# Altium schematic symbol library transistor.SchLib: 21 symbols
Pins are listed as number, name and electrical type; pins without a type are passive.

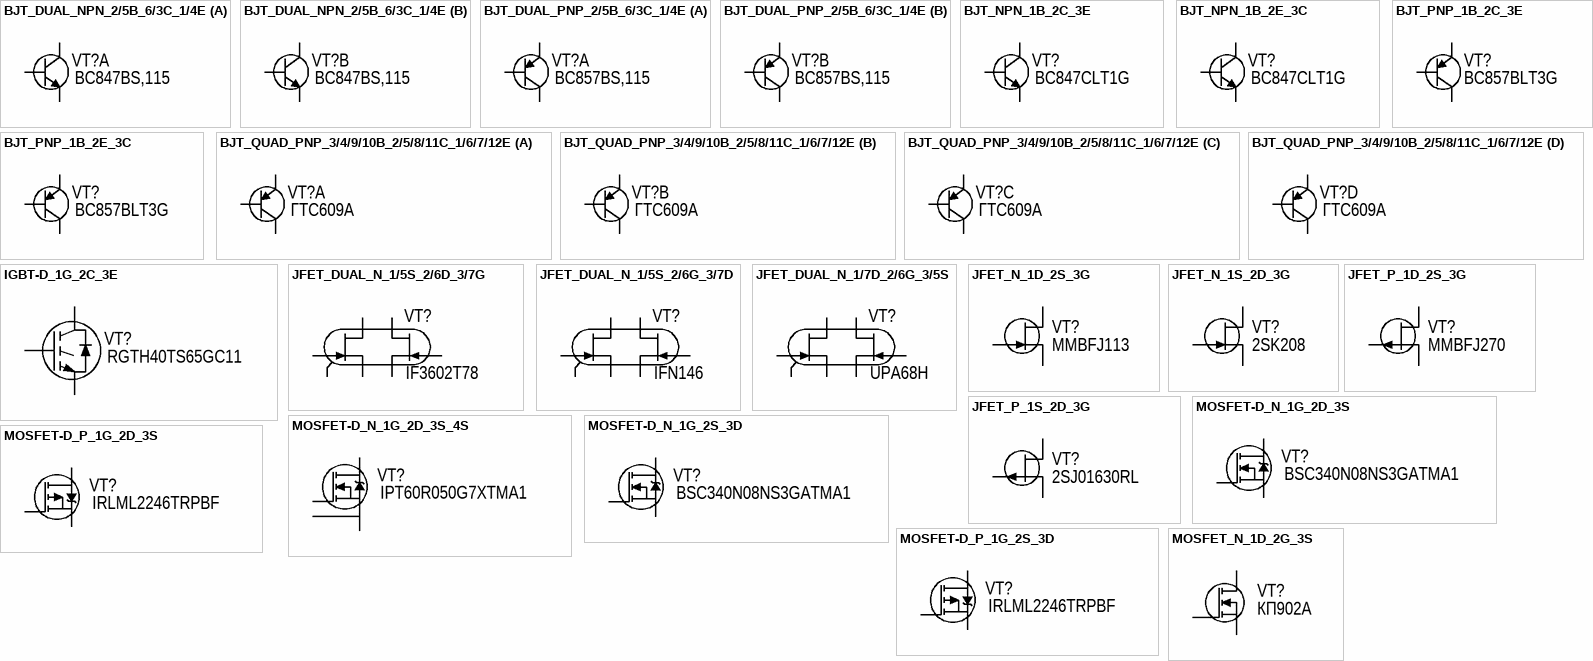
[diagram p0: symbols BJT_DUAL_NPN_2/5B_6/3C_1/4E to MOSFET_N_1D_2G_3S]

## BJT_DUAL_NPN_2/5B_6/3C_1/4E
designator VT?  PartNumber: BC847BS,115
Manufacturer: Nexperia; ValueManufacturerPartNumber: Dual NPN transistor, 45V, 100mA, 100MHz, 300mW, 0.3V, 200, SOT-363, -65...+150°C; TypeTransistor: Dual NPN transistor; VoltageCE: 45V; CurrentCE: 100mA; VoltageSaturation: 0.3V; Frequency: 100MHz; CurrentGain: 200; MaxPower: 300mW; Package: SOT-363; HelpURL: https://www.mouser.com/ProductDetail/Nexperia/BC847BS115?qs=me8TqzrmIYXy2TZEvQyxww%3D%3D; Temperature: -65...+150°C
footprint SC70-6 (SOT363, SC70-6, SOT, 0.65mm Pitch, 6 Pin, 1.25mm W X 2.00mm L X 1.10mm H, IPC Medium Density)
part A pins: 1 E1, 2 B1, 6 C1
part B pins: 3 C2, 4 E2, 5 B2

## BJT_DUAL_PNP_2/5B_6/3C_1/4E
designator VT?  PartNumber: BC857BS,115
Manufacturer: Nexperia; ValueManufacturerPartNumber: Dual PNP transistor, 45V, 100mA, 100MHz, 300mW, 0.4V, 200, SOT-363, -65...+150°C; TypeTransistor: Dual PNP transistor; VoltageCE: 45V; CurrentCE: 100mA; VoltageSaturation: 0.4V; Frequency: 100MHz; CurrentGain: 200; MaxPower: 300mW; Package: SOT-363; HelpURL: https://www.mouser.com/ProductDetail/Nexperia/BC857BS115?qs=me8TqzrmIYUTVIx%252BZhNjFA%3D%3D; Temperature: -65...+150°C
footprint SC70-6 (SOT363, SC70-6, SOT, 0.65mm Pitch, 6 Pin, 1.25mm W X 2.00mm L X 1.10mm H, IPC Medium Density)
part A pins: 1 E1, 2 B1, 6 C1
part B pins: 3 C2, 4 E2, 5 B2

## BJT_NPN_1B_2C_3E
designator VT?  PartNumber: BC847CLT1G
Manufacturer: ON Semiconductor; ValueManufacturerPartNumber: NPN transistor, 45V, 100mA, 100MHz, 300mW, 0.6V, 420, SOT-23, -55...+125°C; TypeTransistor: NPN transistor; VoltageCE: 45V; CurrentCE: 100mA; VoltageSaturation: 0.6V; Frequency: 100MHz; CurrentGain: 420; MaxPower: 300mW; Package: SOT-23; HelpURL: https://www.digikey.com/product-detail/en/on-semiconductor/BC847CLT1G/BC847CLT1GOSCT-ND/917836; Temperature: -55...+125°C
footprint TO-252-2 (DPAK)
footprint TO-263-2 (D2PAK)
footprint SOT23
footprint SOT89
footprint SOT223-3 (SOT223, 4-Leads, Body 6,50x7,00mm (avg), Pitch 2,30mm, IPC Medium Density)
footprint SC-70
pins: 1 B, 2 C, 3 E

## BJT_NPN_1B_2E_3C
designator VT?  PartNumber: BC847CLT1G
Manufacturer: ON Semiconductor; ValueManufacturerPartNumber: NPN transistor, 45V, 100mA, 100MHz, 300mW, 0.6V, 420, SOT-23, -55...+125°C; TypeTransistor: NPN transistor; VoltageCE: 45V; CurrentCE: 100mA; VoltageSaturation: 0.6V; Frequency: 100MHz; CurrentGain: 420; MaxPower: 300mW; Package: SOT-23; HelpURL: https://www.digikey.com/product-detail/en/on-semiconductor/BC847CLT1G/BC847CLT1GOSCT-ND/917836; Temperature: -55...+125°C
footprint TO-263-2 (D2PAK)
footprint TO-252-2 (DPAK)
footprint SOT23
footprint SOT89
footprint SOT223-3 (SOT223, 4-Leads, Body 6,50x7,00mm (avg), Pitch 2,30mm, IPC Medium Density)
footprint SC-70
pins: 1 B, 2 E, 3 C

## BJT_PNP_1B_2C_3E
designator VT?  PartNumber: BC857BLT3G
Manufacturer: ON Semiconductor; ValueManufacturerPartNumber: PNP transistor, 45V, 100mA, 100MHz, 300mW, 0.65V, 220, SOT-23, -55...+125°C; TypeTransistor: PNP transistor; VoltageCE: 45V; CurrentCE: 100mA; VoltageSaturation: 0.65V; Frequency: 100MHz; CurrentGain: 220; MaxPower: 300mW; Package: SOT-23; HelpURL: https://www.digikey.com/product-detail/en/on-semiconductor/BC857BLT3G/BC857BLT3GOSCT-ND/2704963; Temperature: -55...+125°C
footprint TO-263-2 (D2PAK)
footprint TO-252-2 (DPAK)
footprint SOT89
footprint SOT23
footprint SOT223-3 (SOT223, 4-Leads, Body 6,50x7,00mm (avg), Pitch 2,30mm, IPC Medium Density)
footprint SC-70
pins: 1 B, 2 C, 3 E

## BJT_PNP_1B_2E_3C
designator VT?  PartNumber: BC857BLT3G
Manufacturer: ON Semiconductor; ValueManufacturerPartNumber: PNP transistor, 45V, 100mA, 100MHz, 300mW, 0.65V, 220, SOT-23, -55...+125°C; TypeTransistor: PNP transistor; VoltageCE: 45V; CurrentCE: 100mA; VoltageSaturation: 0.65V; Frequency: 100MHz; CurrentGain: 220; MaxPower: 300mW; Package: SOT-23; HelpURL: https://www.digikey.com/product-detail/en/on-semiconductor/BC857BLT3G/BC857BLT3GOSCT-ND/2704963; Temperature: -55...+125°C
footprint TO-263-2 (D2PAK)
footprint TO-252-2 (DPAK)
footprint SOT223-3 (SOT223, 4-Leads, Body 6,50x7,00mm (avg), Pitch 2,30mm, IPC Medium Density)
footprint SOT23
footprint SOT89
footprint SC-70
pins: 1 B, 2 E, 3 C

## BJT_QUAD_PNP_3/4/9/10B_2/5/8/11C_1/6/7/12E
designator VT?  PartNumber: ГТС609A
Manufacturer: ALFA; ValueManufacturerPartNumber: Quad PNP transistor, 50V, 700mA, 60MHz, 500mW, 1.6V, 100mA, 16.3x16.3x5mm, -40...+70°C; TypeTransistor: Quad PNP transistor; VoltageCE: 50V; CurrentCE: 700mA; VoltageSaturation: 1.6V; Frequency: 60MHz; CurrentGain: 100mA; MaxPower: 500mW; Package: 16.3x16.3x5mm; HelpURL: https://eandc.ru/catalog/detail.php?ID=21562; Temperature: -40...+70°C
footprint BJT-QUAD-GTS609 (Quad BJT, Body 16.3x16.3mm)
part A pins: 1 E1, 2 C1, 3 B1
part B pins: 4 B2, 5 C2, 6 E2
part C pins: 7 E3, 8 C3, 9 B3
part D pins: 10 B4, 11 C4, 12 E4

## IGBT-D_1G_2C_3E
designator VT?  PartNumber: RGTH40TS65GC11
Manufacturer: Rohm Semiconductor; ValueManufacturerPartNumber: IGBT transistor, 650V, 40A, 40nC, 144W, 2.1V, 22ns/73ns, TO247, -55...+125°C; TypeTransistor: IGBT transistor; VoltageCE: 650V; CurrentCE: 40A; VoltageSaturation: 2.1V; GateCharge: 40nC; TimeOnOff: 22ns/73ns; MaxPower: 144W; Package: TO247; HelpURL: https://www.digikey.com/product-detail/en/rohm-semiconductor/RGTH40TS65GC11/RGTH40TS65GC11-ND/5029953; Temperature: -55...+125°C
footprint TO-220-3 (TO-220 3-Terminal - Vertical Mount)
footprint TO-247-3 (TO-247 3-Terminal - Vertical Mount)
pins: 1 G, 2 C, 3 E

## JFET_DUAL_N_1/5S_2/6D_3/7G
designator VT?  PartNumber: IF3602T78
Manufacturer: InterFET; ValueManufacturerPartNumber: Dual JFET N-Channel transistor, 10V, 30mA, 300mW, 0.5nV/√Hz, TO-78-7, -55...+125°C; TypeTransistor: Dual JFET N-Channel transistor; VoltageDS: 10V; CurrentDS: 30mA; Noise: 0.5nV/√Hz; MaxPower: 300mW; Package: TO-78-7; HelpURL: https://www.mouser.com/ProductDetail/InterFET/IF3602T78?qs=T%252BzbugeAwjg1%252BhpbdEDGlQ%3D%3D; Temperature: -55...+125°C
footprint TO-78-7 (InterFET) (TO-78 7 Leads, Body Dia. 9.4mm (max), Lead Diameter 5.08mm)
pins: 1 S1, 2 D1, 3 G1, 4 CASE, 5 S2, 6 D2, 7 G2

## JFET_DUAL_N_1/5S_2/6G_3/7D
designator VT?  PartNumber: IFN146
Manufacturer: InterFET; ValueManufacturerPartNumber: Dual JFET N-Channel transistor, 10V, 30mA, 375mW, 1.1nV/√Hz, TO-71-6, -55...+125°C; TypeTransistor: Dual JFET N-Channel transistor; VoltageDS: 10V; CurrentDS: 30mA; Noise: 1.1nV/√Hz; MaxPower: 375mW; Package: TO-71-6; HelpURL: https://www.mouser.com/ProductDetail/InterFET/IFN146?qs=OxRSArmBDfzNT8%252Bge0QSsA%3D%3D; Temperature: -55...+125°C
footprint TO-71-7 (InterFET) (TO-71 7 Leads, Pitch 2.54mm, Body Dia. 5.84mm, Leads Dia. 0.5mm)
pins: 1 S1, 2 G1, 3 D1, 4 CASE, 5 S2, 6 G2, 7 D2

## JFET_DUAL_N_1/7D_2/6G_3/5S
designator VT?  PartNumber: UPA68H
Manufacturer: NEC; ValueManufacturerPartNumber: Dual JFET N-Channel transistor, 50V, 30mA, 250mW, 1.1nV/√Hz, SIP-7, -55...+125°C; TypeTransistor: Dual JFET N-Channel transistor; VoltageDS: 50V; CurrentDS: 30mA; Noise: 1.1nV/√Hz; MaxPower: 250mW; Package: SIP-7; HelpURL: https://datasheetspdf.com/pdf-file/621342/NEC/UPA68H/1; Temperature: -55...+125°C
footprint JFET-DUAL-UPA68H-NEC (SIP-7 Dual JFET, Body 19.5 x 2.8mm)
footprint JFET-DUAL-UPA68H-SINGAPORE (SIP-7 Dual JFET, Body 19.5 x 2.8mm)
pins: 1 D1, 2 G1, 3 S1, 4 CASE, 5 S2, 6 G2, 7 D2

## JFET_N_1D_2S_3G
designator VT?  PartNumber: MMBFJ113
Manufacturer: ON Semiconductor; ValueManufacturerPartNumber: JFET N-Channel transistor, 35V, 2mA, 350mW, 100 Ohms, SOT-23, -55...+150°C; TypeTransistor: JFET N-Channel transistor; VoltageDS: 35V; CurrentDS: 2mA; RDS: 100 Ohms; MaxPower: 350mW; Package: SOT-23; HelpURL: https://www.digikey.com/product-detail/en/on-semiconductor/MMBFJ113/MMBFJ113TR-ND/1049302; Temperature: -55...+150°C
footprint SOT23
pins: 1 D, 2 S, 3 G

## JFET_N_1S_2D_3G
designator VT?  PartNumber: 2SK208
Manufacturer: Toshiba Semiconductor and Storage; ValueManufacturerPartNumber: JFET N-Channel transistor, 50V, 6.5mA, 100mW, 100 Ohms, SOT-23, -55...+125°C; TypeTransistor: JFET N-Channel transistor; VoltageDS: 50V; CurrentDS: 6.5mA; RDS: 100 Ohms; MaxPower: 100mW; Package: SOT-23; HelpURL: https://www.digikey.com/product-detail/en/toshiba-semiconductor-and-storage/2SK208-R-TE85L-F/2SK208-R-TE85LF-TR-ND/4503056; Temperature: -55...+125°C
footprint SOT23
footprint TO-39-3 (InterFET) (TO-39  3 Leads, Pitch 2.54mm, Body Dia. 9.4mm, Leads Dia. 0.5mm)
pins: 1 S, 2 D, 3 G

## JFET_P_1D_2S_3G
designator VT?  PartNumber: MMBFJ270
Manufacturer: ON Semiconductor; ValueManufacturerPartNumber: JFET P-Channel transistor, 30V, 2mA, 225mW, 34mOhm, SOT-23, -55...+150°C; TypeTransistor: JFET P-Channel transistor; VoltageDS: 30V; CurrentDS: 2mA; RDS: 34mOhm; MaxPower: 225mW; Package: SOT-23; HelpURL: https://www.digikey.com/product-detail/en/on-semiconductor/MMBFJ270/MMBFJ270TR-ND/1050159; Temperature: -55...+150°C
footprint SOT23
pins: 1 D, 2 S, 3 G

## JFET_P_1S_2D_3G
designator VT?  PartNumber: 2SJ01630RL
Manufacturer: Panasonic Electronic Components; ValueManufacturerPartNumber: JFET P-Channel transistor, 65V, 20mA, 150mW, 300 Ohms, SOT-23, -55...+150°C; TypeTransistor: JFET P-Channel transistor; VoltageDS: 65V; CurrentDS: 20mA; RDS: 300 Ohms; MaxPower: 150mW; Package: SOT-23; HelpURL: https://www.digikey.com/product-detail/en/panasonic-electronic-components/2SJ01630RL/2SJ01630RLTR-ND/972189; Temperature: -55...+150°C
footprint SOT23
pins: 1 S, 2 D, 3 G

## MOSFET-D_N_1G_2D_3S
designator VT?  PartNumber: BSC340N08NS3GATMA1
Manufacturer: Infineon Technologies; ValueManufacturerPartNumber: MOSFET N-channel transistor, 80V, 7A, 9.1nC, 2.5W, 34mOhm, 756pF, 8-TDSON, -55...+150°C; TypeTransistor: MOSFET N-channel transistor; VoltageDS: 80V; CurrentDS: 7A; RDS: 34mOhm; GateCharge: 9.1nC; InputCapacitor: 756pF; MaxPower: 2.5W; Package: 8-TDSON; HelpURL: https://www.digikey.com/product-detail/en/infineon-technologies/BSC340N08NS3GATMA1/BSC340N08NS3GATMA1TR-ND/2080655; Temperature: -55...+150°C
footprint SOT23
footprint TO-220-3 (TO-220 3-Terminal - Vertical Mount)
footprint TO-247-3 (TO-247 3-Terminal - Vertical Mount)
footprint HSOF-8-1 (8-HSOF)
footprint 8-TDSON (pitch 1.3 mm, power pad)
footprint TO-263-2 (D2PAK)
footprint TO-252-2 (DPAK)
footprint SC-70
footprint 8-PowerWDFN
footprint TO-220-3-FP (TO-220 3-Terminal Outline/Fully Isolated package (2500VAC; 1minute) - Vertical Mount)
pins: 1 G, 2 D, 3 S

## MOSFET-D_N_1G_2D_3S_4S
designator VT?  PartNumber: IPT60R050G7XTMA1
Manufacturer: Infineon Technologies; ValueManufacturerPartNumber: MOSFET N-channel transistor, 650V, 44A, 68nC, 245W, 50mOhm, 2670pF, 8-HSOF, -55...+150°C; TypeTransistor: MOSFET N-channel transistor; VoltageDS: 650V; CurrentDS: 44A; RDS: 50mOhm; GateCharge: 68nC; InputCapacitor: 2670pF; MaxPower: 245W; Package: 8-HSOF; HelpURL: https://www.digikey.com/product-detail/en/infineon-technologies/IPT60R050G7XTMA1/IPT60R050G7XTMA1CT-ND/8655796; Temperature: -55...+150°C
footprint HSOF-8-2 (8-HSOF)
footprint PowerPAK (8x8 mm)
pins: 1 G, 2 D, 3 S, 4 S

## MOSFET-D_N_1G_2S_3D
designator VT?  PartNumber: BSC340N08NS3GATMA1
Manufacturer: Infineon Technologies; ValueManufacturerPartNumber: MOSFET N-channel transistor, 80V, 7A, 9.1nC, 2.5W, 34mOhm, 756pF, 8-TDSON, -55...+150°C; TypeTransistor: MOSFET N-channel transistor; VoltageDS: 80V; CurrentDS: 7A; RDS: 34mOhm; GateCharge: 9.1nC; InputCapacitor: 756pF; MaxPower: 2.5W; Package: 8-TDSON; HelpURL: https://www.digikey.com/product-detail/en/infineon-technologies/BSC340N08NS3GATMA1/BSC340N08NS3GATMA1TR-ND/2080655; Temperature: -55...+150°C
footprint SOT23
footprint TO-263-2 (D2PAK)
footprint TO-252-2 (DPAK)
footprint SC-70
pins: 1 G, 2 S, 3 D

## MOSFET-D_P_1G_2D_3S
designator VT?  PartNumber: IRLML2246TRPBF
Manufacturer: Infineon Technologies; ValueManufacturerPartNumber: MOSFET P-channel transistor, 20V, 2.6A, 2.9nC, 2.5W, 135mOhm, 220pF, SOT-23, -55...+150°C; TypeTransistor: MOSFET P-channel transistor; VoltageDS: 20V; CurrentDS: 2.6A; RDS: 135mOhm; GateCharge: 2.9nC; InputCapacitor: 220pF; MaxPower: 2.5W; Package: SOT-23; HelpURL: https://www.digikey.com/product-detail/en/infineon-technologies/IRLML2246TRPBF/IRLML2246TRPBFCT-ND/2639576; Temperature: -55...+150°C
footprint SOT23
footprint TO-263-2 (D2PAK)
footprint TO-252-2 (DPAK)
footprint SC-70
footprint TO-220-3 (TO-220 3-Terminal - Vertical Mount)
footprint TO-220-3-FP (TO-220 3-Terminal Outline/Fully Isolated package (2500VAC; 1minute) - Vertical Mount)
pins: 1 G, 2 D, 3 S

## MOSFET-D_P_1G_2S_3D
designator VT?  PartNumber: IRLML2246TRPBF
Manufacturer: Infineon Technologies; ValueManufacturerPartNumber: MOSFET P-channel transistor, 20V, 2.6A, 2.9nC, 2.5W, 135mOhm, 220pF, SOT-23, -55...+150°C; TypeTransistor: MOSFET P-channel transistor; VoltageDS: 20V; CurrentDS: 2.6A; RDS: 135mOhm; GateCharge: 2.9nC; InputCapacitor: 220pF; MaxPower: 2.5W; Package: SOT-23; HelpURL: https://www.digikey.com/product-detail/en/infineon-technologies/IRLML2246TRPBF/IRLML2246TRPBFCT-ND/2639576; Temperature: -55...+150°C
footprint SOT23
footprint TO-263-2 (D2PAK)
footprint TO-252-2 (DPAK)
footprint SC-70
pins: 1 G, 2 S, 3 D

## MOSFET_N_1D_2G_3S
designator VT?  PartNumber: КП902А
Manufacturer: GZ Pulsar; ValueManufacturerPartNumber: MOSFET N-channel transistor, 30V, 0.2A, 9.1nC, 3.5W, 0.8Ohm, 11pF, KT-4-2, -45...+85°C; TypeTransistor: MOSFET N-channel transistor; VoltageDS: 30V; CurrentDS: 0.2A; RDS: 0.8Ohm; GateCharge: 9.1nC; InputCapacitor: 11pF; MaxPower: 3.5W; Package: KT-4-2; HelpURL: https://alltransistors.com/adv/pdfdatasheet_russia/kp902_2p902.pdf; Temperature: -45...+85°C
footprint TO-60 (KT-4-2) (TO-60 (KT-4-2) Case - Vertical Mount)
footprint TO-60 (KT-4-2) Flipped (TO-60 (KT-4-2) Case - Flipped Vertical Mount)
pins: 1 D, 2 G, 3 S